# Altium footprint library hhc_ad4_YZB.PcbLib: 55 footprints (part 4 of 4)
Each footprint in its own frame and in the unit in brackets; x right, y up, seen from the top. Pads: shape width x height; smd on the part's side, far side on the other; paste and mask are expansions set on the pad; w line width, h text height; cw(c..) or ccw(c..) is an arc to the next point about the centre after c.
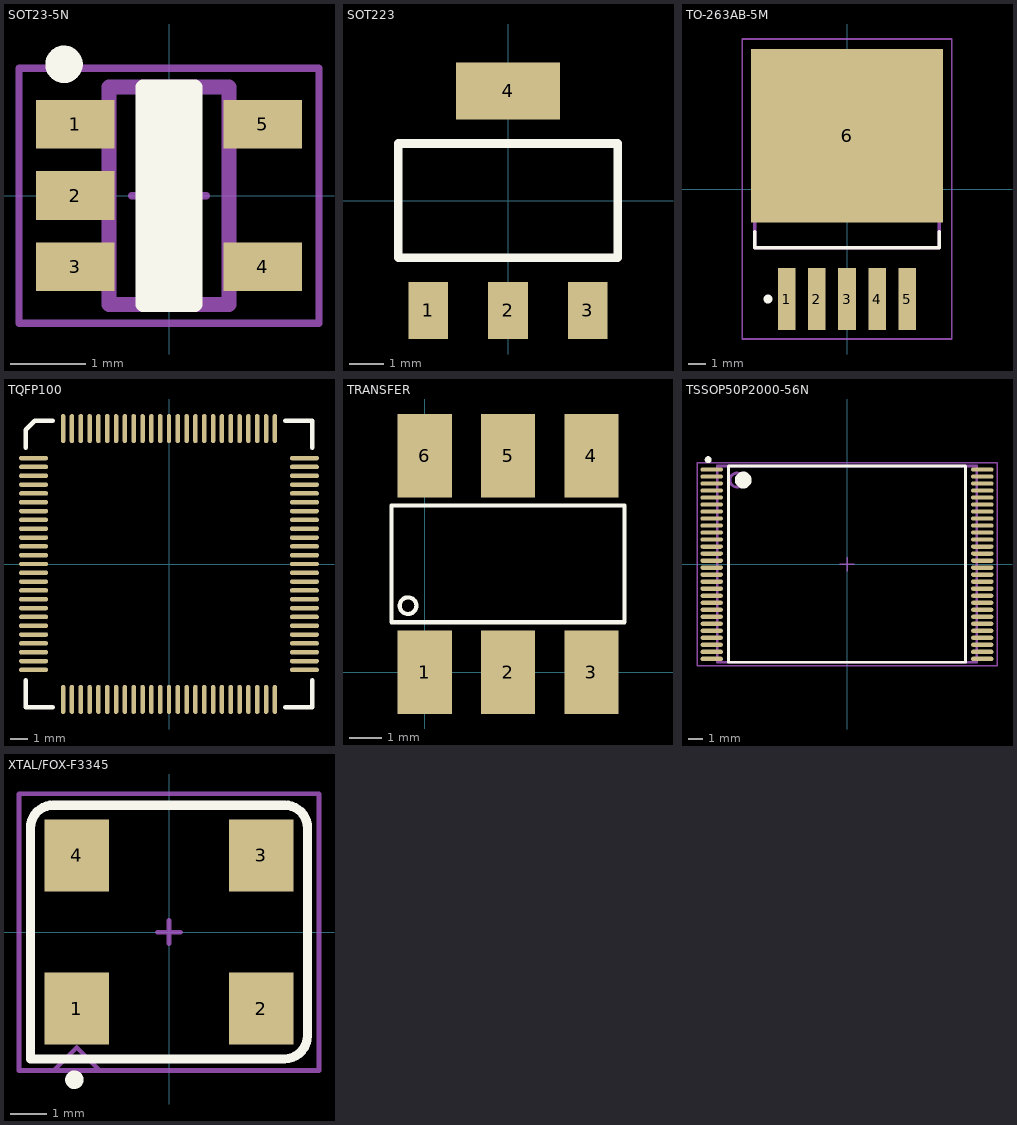
[diagram p3: the footprints below, top view; thin cyan lines are the x and y axes]

## SOT23-5N [mm]
pads (5):
  rect 1.05x0.65 smd: 1(-1.25,0.95) 2(-1.25,0) 3(-1.25,-0.95) 4(1.25,-0.95) 5(1.25,0.95)
Top Overlay:
  circle w0.25: c-1.4,1.75 r0.125
  lines w0.2: -0.25,-1.45 -0.25,1.45 ; -0.1,-1.45 -0.1,1.45 ; 0.05,-1.45 0.05,1.45 ; 0.2,-1.45 0.2,1.45 ; -0.35,-1.45 0.35,-1.45 0.35,1.45 -0.35,1.45 -0.35,-1.45
Mechanical 1:
  lines w0.2: -0.8,-1.45 0.8,-1.45 0.8,1.45 -0.8,1.45 -0.8,-1.45
  text "U71" at -0.802,-0.35 h0.75
Mechanical 8:
  lines w0.1: -0.5,0 0.5,0 ; 0,-0.5 0,0.5 ; -2,-1.7 -2,1.7 2,1.7 2,-1.7 -2,-1.7
Mechanical 9:
  lines w0.001: -0.8,-1.45 0.8,-1.45 0.8,1.45 -0.8,1.45 -0.8,-1.45

## SOT223 [mil]
pads (4):
  rect 45x65 smd: 1(-91,-125) 2(0,-125) 3(91,-125)
  rect 118x65 smd: 4(0,125)
Top Overlay:
  lines w10: -125,-65 125,-65 125,65 -125,65 -125,-65

## TO-263AB-5M [mm]
pads (6):
  rect 1x3.5 smd: 1(-3.4,-6.2) 2(-1.7,-6.2) 3(0,-6.2) 4(1.7,-6.2) 5(3.4,-6.2)
  rect 10.8x9.8 smd: 6(0,3)
Top Overlay:
  circle w0.25: c-4.45,-6.2 r0.125
  lines w0.2: -5.2,-2.4 -5.2,-3.3 5.2,-3.3 5.2,-2.4
Mechanical 1:
  lines w0.2: -5.2,-3.3 -5.2,5.2 5.2,5.2 5.2,-3.3 -5.2,-3.3
  text "U7" at -0.805,0.4 h1
Mechanical 8:
  lines w0.1: -0.5,0 0.5,0 ; 0,-0.5 0,0.5 ; -5.9,-8.45 -5.9,8.45 5.9,8.45 5.9,-8.45 -5.9,-8.45

## TQFP100 [mil]
pads (100):
  oval 65x10 smd: 1(-302.5,236.4) 2(-302.5,216.7) 3(-302.5,197) 4(-302.5,177.3) 5(-302.5,157.6) 6(-302.5,137.9) 7(-302.5,118.2) 8(-302.5,98.5) 9(-302.5,78.8) 10(-302.5,59.1) 11(-302.5,39.4) 12(-302.5,19.7) 13(-302.5,0) 14(-302.5,-19.7) 15(-302.5,-39.4) 16(-302.5,-59.1) 17(-302.5,-78.8) 18(-302.5,-98.5) 19(-302.5,-118.2) 20(-302.5,-137.9) 21(-302.5,-157.6) 22(-302.5,-177.3) 23(-302.5,-197) 24(-302.5,-216.7) 25(-302.5,-236.4) 51(302.5,-236.4) 52(302.5,-216.7) 53(302.5,-197) 54(302.5,-177.3) 55(302.5,-157.6) 56(302.5,-137.9) 57(302.5,-118.2) 58(302.5,-98.5) 59(302.5,-78.8) 60(302.5,-59.1) 61(302.5,-39.4) 62(302.5,-19.7) 63(302.5,0) 64(302.5,19.7) 65(302.5,39.4) 66(302.5,59.1) 67(302.5,78.8) 68(302.5,98.5) 69(302.5,118.2) 70(302.5,137.9) 71(302.5,157.6) 72(302.5,177.3) 73(302.5,197) 74(302.5,216.7) 75(302.5,236.4)
  oval 10x65 smd: 26(-236.4,-302.5) 27(-216.7,-302.5) 28(-197,-302.5) 29(-177.3,-302.5) 30(-157.6,-302.5) 31(-137.9,-302.5) 32(-118.2,-302.5) 33(-98.5,-302.5) 34(-78.8,-302.5) 35(-59.1,-302.5) 36(-39.4,-302.5) 37(-19.7,-302.5) 38(0,-302.5) 39(19.7,-302.5) 40(39.4,-302.5) 41(59.1,-302.5) 42(78.8,-302.5) 43(98.5,-302.5) 44(118.2,-302.5) 45(137.9,-302.5) 46(157.6,-302.5) 47(177.3,-302.5) 48(197,-302.5) 49(216.7,-302.5) 50(236.4,-302.5) 76(236.4,302.5) 77(216.7,302.5) 78(197,302.5) 79(177.3,302.5) 80(157.6,302.5) 81(137.9,302.5) 82(118.2,302.5) 83(98.5,302.5) 84(78.8,302.5) 85(59.1,302.5) 86(39.4,302.5) 87(19.7,302.5) 88(0,302.5) 89(-19.7,302.5) 90(-39.4,302.5) 91(-59.1,302.5) 92(-78.8,302.5) 93(-98.5,302.5) 94(-118.2,302.5) 95(-137.9,302.5) 96(-157.6,302.5) 97(-177.3,302.5) 98(-197,302.5) 99(-216.7,302.5) 100(-236.4,302.5)
Top Overlay:
  lines w10: -320,-260 -320,-320 -260,-320 ; -320,260 -320,300 -300,320 -260,320 ; 260,-320 320,-320 320,-260 ; 260,320 320,320 320,260

## TRANSFER [mil]
pads (6):
  rect 65x100 smd: 1(0,0) 2(100,0) 3(200,0) 4(200,260) 5(100,260) 6(0,260)
Top Overlay:
  circle w5: c-20,80 r10
  lines w5: -40,60 -40,200 240,200 240,60 -40,60

## TSSOP50P2000-56N [mm]
pads (56):
  oval 1.6x0.3 smd: 1(-9.65,6.75) 2(-9.65,6.25) 3(-9.65,5.75) 4(-9.65,5.25) 5(-9.65,4.75) 6(-9.65,4.25) 7(-9.65,3.75) 8(-9.65,3.25) 9(-9.65,2.75) 10(-9.65,2.25) 11(-9.65,1.75) 12(-9.65,1.25) 13(-9.65,0.75) 14(-9.65,0.25) 15(-9.65,-0.25) 16(-9.65,-0.75) 17(-9.65,-1.25) 18(-9.65,-1.75) 19(-9.65,-2.25) 20(-9.65,-2.75) 21(-9.65,-3.25) 22(-9.65,-3.75) 23(-9.65,-4.25) 24(-9.65,-4.75) 25(-9.65,-5.25) 26(-9.65,-5.75) 27(-9.65,-6.25) 28(-9.65,-6.75) 29(9.65,-6.75) 30(9.65,-6.25) 31(9.65,-5.75) 32(9.65,-5.25) 33(9.65,-4.75) 34(9.65,-4.25) 35(9.65,-3.75) 36(9.65,-3.25) 37(9.65,-2.75) 38(9.65,-2.25) 39(9.65,-1.75) 40(9.65,-1.25) 41(9.65,-0.75) 42(9.65,-0.25) 43(9.65,0.25) 44(9.65,0.75) 45(9.65,1.25) 46(9.65,1.75) 47(9.65,2.25) 48(9.65,2.75) 49(9.65,3.25) 50(9.65,3.75) 51(9.65,4.25) 52(9.65,4.75) 53(9.65,5.25) 54(9.65,5.75) 55(9.65,6.25) 56(9.65,6.75)
Top Overlay:
  circle w0.6: c-7.4,6 r0.3
  circle w0.25: c-9.9,7.45 r0.125
  lines w0.2: -8.45,-7 -8.45,7 8.45,7 8.45,-7 -8.45,-7
Mechanical 1:
  circle w0.2: c-7.85,6 r0.5
  lines w0.2: -9.25,-7 -9.25,7 9.25,7 9.25,-7 -9.25,-7
  text "U51" at -1.035,-0.5 h1
Mechanical 8:
  lines w0.1: -0.5,0 0.5,0 ; 0,-0.5 0,0.5 ; -10.7,-7.25 -10.7,7.25 10.7,7.25 10.7,-7.25 -10.7,-7.25
Mechanical 9:
  lines w0.001: -9.25,-7 -9.25,7 9.25,7 9.25,-7 -9.25,-7

## XTAL/FOX-F3345 [mil]
pads (4):
  rect 70x78 smd: 1(-100,-83) 2(100,-83) 3(100,83) 4(-100,83)
Top Overlay:
  circle w10: c-102.5,-160 r5
  lines w10: -150,-137.5 -150,112.5 cw(c-125.6,113.1) -125,137.5 125,137.5 cw(c125.6,113.1) 150,112.5 150,-112.5 cw(c124.51,-112.01) 125,-137.5 -150,-137.5
Mechanical 8:
  lines w5: -125,-150 -100,-125 -75,-150 ; -12.5,0 12.5,0 ; 0,-12.5 0,12.5 ; -162.5,-150 162.5,-150 162.5,150 -162.5,150 -162.5,-150